# Altium footprint library AG.Old.PcbLib: 35 footprints (part 1 of 3)
Each footprint in its own frame and in the unit in brackets; x right, y up, seen from the top. Pads: shape width x height; smd on the part's side, far side on the other; paste and mask are expansions set on the pad; w line width, h text height; cw(c..) or ccw(c..) is an arc to the next point about the centre after c.
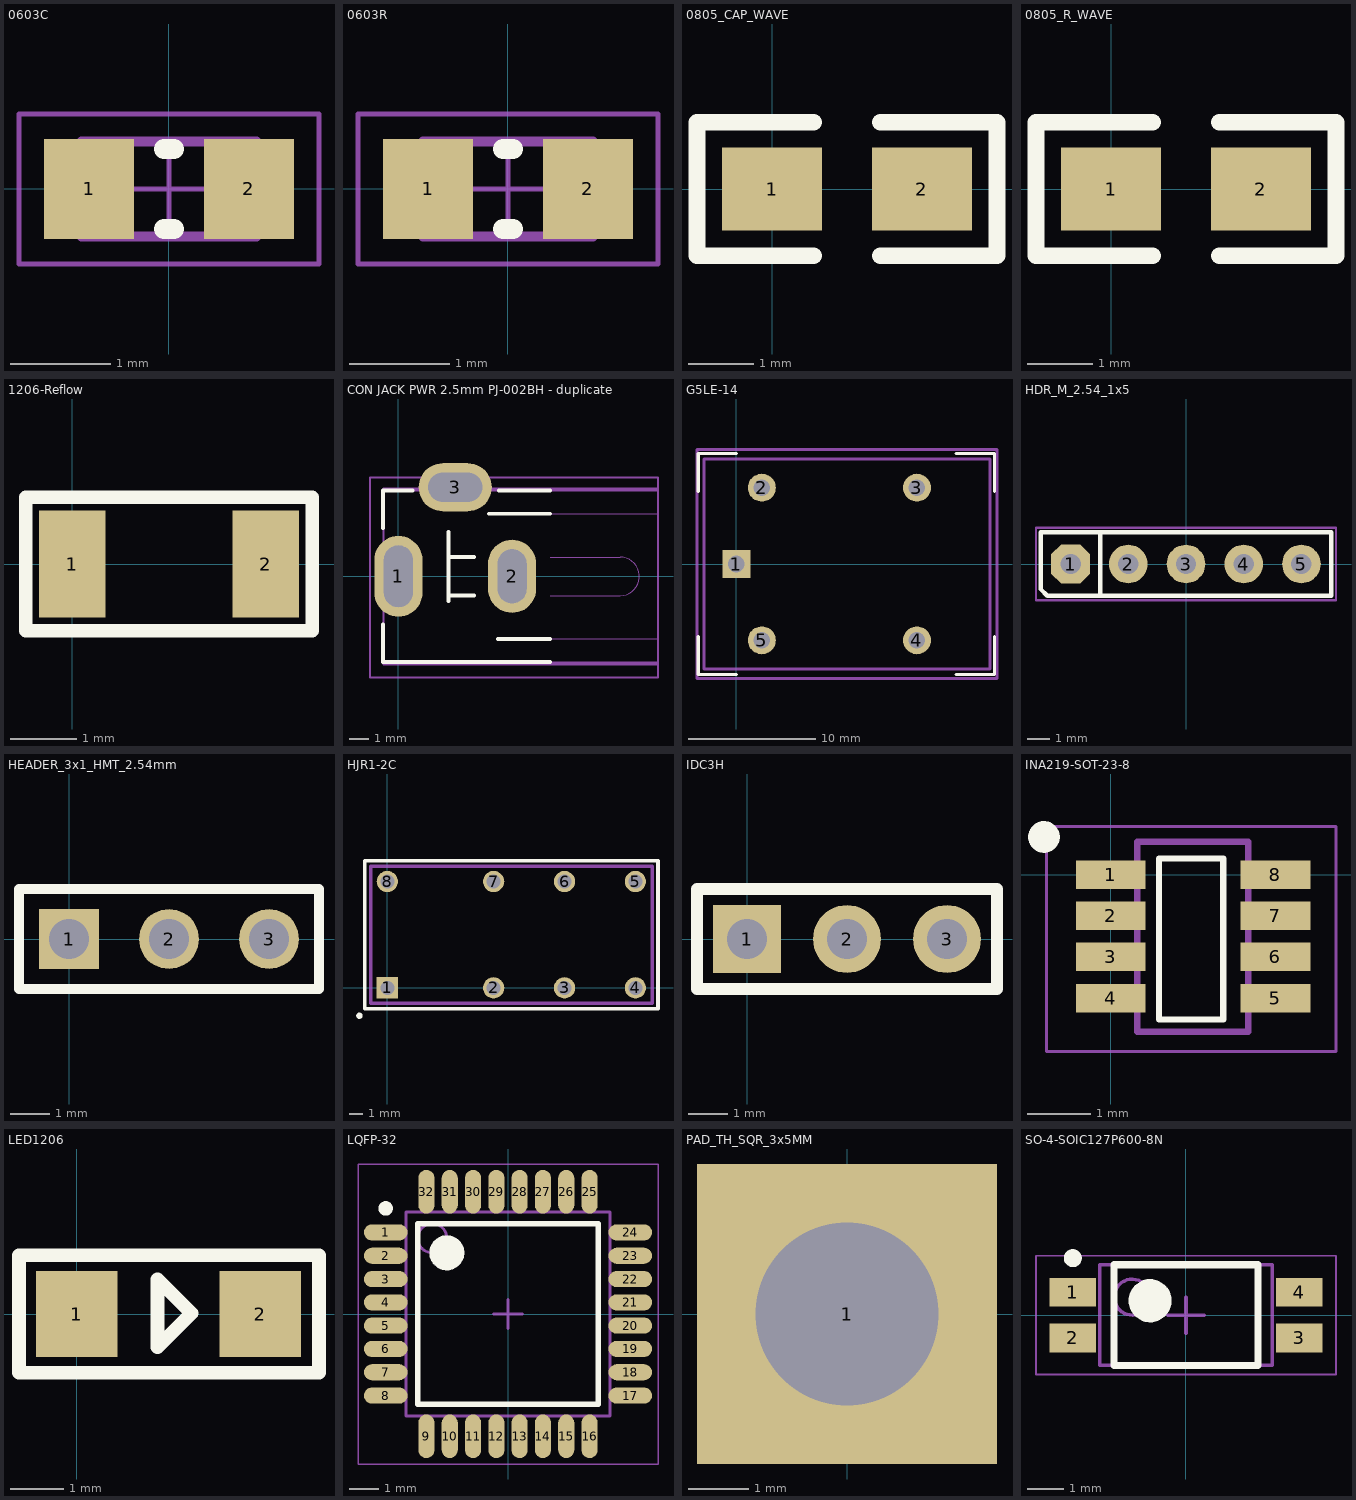
[diagram p0: the footprints below, top view; thin cyan lines are the x and y axes]

## 0603C [mm]
height 1
pads (2):
  rect 0.9x1 smd: 1(-0.8,0) 2(0.8,0)
Top Overlay:
  lines w0.2: -0.05,-0.4 0.05,-0.4 ; -0.05,0.4 0.05,0.4
Mechanical 13:
  lines w0.1: -0.875,-0.475 0.875,-0.475 0.875,0.475 -0.875,0.475 -0.875,-0.475
Mechanical 15:
  lines w0.05: -0.475,0 0.475,0 ; 0,-0.475 0,0.475 ; -1.5,-0.75 1.5,-0.75 1.5,0.75 -1.5,0.75 -1.5,-0.75
3D body: height 1, standoff 0, extent 0.525,-0.475 0.875,0.475
3D body: height 1, standoff 0, extent -0.875,-0.475 -0.525,0.475
3D body: height 1, standoff 0, extent -0.525,-0.475 0.525,0.475

## 0603R [mm]
height 0.6
pads (2):
  rect 0.9x1 smd: 1(-0.8,0) 2(0.8,0)
Top Overlay:
  lines w0.2: -0.05,-0.4 0.05,-0.4 ; -0.05,0.4 0.05,0.4
Mechanical 13:
  lines w0.1: -0.85,-0.475 -0.85,0.475 0.85,0.475 0.85,-0.475 -0.85,-0.475
Mechanical 15:
  lines w0.05: -0.475,0 0.475,0 ; 0,-0.475 0,0.475 ; -1.5,-0.75 -1.5,0.75 1.5,0.75 1.5,-0.75 -1.5,-0.75
3D body: height 0.6, standoff 0, extent 0.581,-0.474 0.85,0.475
3D body: height 0.6, standoff 0, extent -0.58,-0.474 0.581,0.475
3D body: height 0.6, standoff 0, extent -0.849,-0.474 -0.58,0.475

## 0805_CAP_WAVE [mil] "Capacitor 0805 (Wave)"
height 100.79
pads (2):
  rect 60x50 smd: 1(0,0) 2(90,0)
Top Overlay:
  lines w10: 25,-40 -45,-40 -45,40 25,40 ; 65,-40 135,-40 135,40 65,40
3D body "0805_Capacitor.step": height 35.43, standoff 0, extent 5.64,-24.6 84.38,24.61

## 0805_R_WAVE [mil] "Resistor SMD0805 (Wave)"
height 100.79
pads (2):
  rect 60x50 smd: 1(0,0) 2(90,0)
Top Overlay:
  lines w10: 25,-40 -45,-40 -45,40 25,40 ; 65,-40 135,-40 135,40 65,40
3D body "0805_Resistor.STEP": height 29.92, standoff 0, extent -0.27,-26.57 90.28,26.58

## 1206-Reflow [mm]
pads (2):
  rect 1x1.6 smd: 1(0,0) 2(2.9,0)
Top Overlay:
  lines w0.2: -0.7,-1 3.6,-1 3.6,1 -0.7,1 -0.7,-1
3D body "SW3dPS-1206_SMD_Cap.step": height 1, standoff 0, extent -0.2,-0.8 3,0.8

## CON JACK PWR 2.5mm PJ-002BH - duplicate [mil] "Connector, Power Jack, 2.5 mm x 5.1 mm, 24 V, 5 A, Right Angle, TH"
height 433.07
pads (3):
  oval 100x167.95 hole 60 slot 127.95 at 90 deg: 1(0,0)
  oval 100x152.2 hole 60 slot 112.2 at 90 deg: 2(236,0)
  oval 152.2x100 hole 60 slot 112.2 at 0 deg: 3(118,185)
Top Overlay:
  lines w8: -32,-100 -32,-178 314.96,-178 ; -32,100 -32,178 29,178 ; 104,-51.18 104,92 ; 104,-40 157,-40 ; 104,40 157,40 ; 188,130 314.96,130 ; 206.69,-130 314.96,-130 ; 209,178 314.96,178
Mechanical 11:
  lines w3.94: -31,-179 539,-179 539,178 -31,178 -31,-179
Mechanical 13:
  lines w1: 314.96,-178 539,-178 539,178 314.96,178 ; 314.96,-130 539,-130 ; 314.96,-40 460.11,-40 ccw(c460.11,0) 460.11,40 314.96,40 ; 314.96,130 539,130
  lines w3.94: -31.35,-183 539,-183 539,182 -31.35,182 -31.35,-183
Mechanical 15:
  lines w3.94: -15,0 15,0 ; 0,-15 0,15 ; -59,-210 -59,205 539,205 539,-210 -59,-210
3D body "PJ-002AH.STEP": height 435.04, standoff -135.83, extent -29.46,-177.08 537.46,193

## G5LE-14 [mm] "RELAY GEN PURPOSE SPDT"
height 22.5
pads (5):
  rect 2.2x2.2 hole 1.3: 1(0,0)
  round 2.2 hole 1.3: 2(2,6) 3(14.2,6) 4(14.2,-6) 5(2,-6)
Top Overlay:
  lines w0.254: -3,-5.7 -3,-8.7 0,-8.7 ; -3,5.7 -3,8.7 0,8.7 ; 17.3,-8.7 20.3,-8.7 20.3,-5.7 ; 17.3,8.7 20.3,8.7 20.3,5.7
Mechanical 13:
  lines w0.254: -2.55,-8.25 19.95,-8.25 19.95,8.25 -2.55,8.25 -2.55,-8.25
Mechanical 15:
  lines w0.254: -3.1,-9 -3.1,9 20.5,9 20.5,-9 -3.1,-9

## HDR_M_2.54_1x5 [mm] "Header Male Vertical 5 Way 2.54mm Pitch"
height 0.6
pads (5):
  oct 1.7x1.7 hole 0.9: 1(-5.08,0)
  round 1.7 hole 0.9: 2(-2.54,0) 3(0,0) 4(2.54,0) 5(5.08,0)
Top Overlay:
  lines w0.2: -3.78,-1.4 -3.78,1.4 ; -6.4,-1.1 -6.1,-1.4 6.4,-1.4 6.4,1.4 -6.4,1.4 -6.4,-1.1
Mechanical 11:
  lines w0.1: -3.78,-1.4 -3.78,1.4 ; -6.4,-1.1 -6.4,1.4 6.4,1.4 6.4,-1.4 -6.1,-1.4 -6.4,-1.1
Mechanical 15:
  lines w0.1: -0.5,0 0.5,0 ; 0,-0.5 0,0.5 ; -6.6,-1.6 -6.6,1.6 6.6,1.6 6.6,-1.6 -6.6,-1.6
3D body "Samtec-TSW-105-07-G-S.step": height 8.4, standoff -2.52, extent -6.333,-1.267 6.367,1.273

## HEADER_3x1_HMT_2.54mm [mil] "Generic Pin Header 3x1 (HMT)"
height 354.33
pads (3):
  rect 60x60 hole 40: 1(0,0)
  round 60 hole 40: 2(100,0) 3(200,0)
Top Overlay:
  lines w10: -50,-50 -50,50 250,50 250,-50 -50,-50

## HJR1-2C [mil]
height 480.31
pads (8):
  rect 60x60 hole 39.37: 1(0,0)
  round 60 hole 39.37: 2(300,0) 3(500,0) 4(700,0) 5(700,300) 6(500,300) 7(300,300) 8(0,300)
Top Overlay:
  circle w10: c-78.74,-78.74 r3.94
  lines w10: -62.99,-59.06 763.78,-59.06 763.78,358.27 -62.99,358.27 -62.99,-59.06
Mechanical 13:
  lines w10: -47.24,-42.91 747.24,-42.91 747.24,342.91 -47.24,342.91 -47.24,-42.91

## IDC3H [mil]
pads (3):
  rect 68x68 hole 40: 1(0,0)
  round 68 hole 40: 2(100,0) 3(200,0)
Top Overlay:
  lines w12: 30,-50 -50,-50 ; -50,-50 250,-50 250,50 -50,50 -50,-50
3D body "PLS3.step": height 334.65, standoff -137.8, extent -50,-50 250,50

## INA219-SOT-23-8 [mm] "Pitch 0.65mm"
height 1.45
pads (8):
  rect 1.1x0.45 smd: 1(0,0) 2(0,-0.65) 3(0,-1.3) 4(0,-1.95) 5(2.6,-1.95) 6(2.6,-1.3) 7(2.6,-0.65) 8(2.6,0)
Top Overlay:
  circle w0.25: c-1.055,0.595 r0.125
  lines w0.1: 0.762,-2.286 1.778,-2.286 1.778,0.254 0.762,0.254 0.762,-2.286
Mechanical 13:
  lines w0.1: 0.42,-2.48 2.17,-2.48 2.17,0.52 0.42,0.52 0.42,-2.48
Mechanical 15:
  lines w0.05: -1.016,-2.794 -1.016,0.762 3.556,0.762 3.556,-2.794 -1.016,-2.794

## LED1206 [mm] "LED Chip 1206 (3.2mm x 1.5mm)"
height 1
pads (2):
  rect 1.52x1.6 smd: 1(0,0) 2(3.425,0)
Top Overlay:
  lines w0.254: -1.075,-1.1 -1.075,1.1 4.525,1.1 4.525,-1.1 -1.075,-1.1 ; 1.511,-0.622 1.511,0.648 2.146,0.013 1.511,-0.622

## LQFP-32 [mm]
height 1.2
pads (32):
  oval 1.5x0.55 smd: 1(-4.2,2.8) 2(-4.2,2) 3(-4.2,1.2) 4(-4.2,0.4) 5(-4.2,-0.4) 6(-4.2,-1.2) 7(-4.2,-2) 8(-4.2,-2.8) 17(4.2,-2.8) 18(4.2,-2) 19(4.2,-1.2) 20(4.2,-0.4) 21(4.2,0.4) 22(4.2,1.2) 23(4.2,2) 24(4.2,2.8)
  oval 0.55x1.5 smd: 9(-2.8,-4.2) 10(-2,-4.2) 11(-1.2,-4.2) 12(-0.4,-4.2) 13(0.4,-4.2) 14(1.2,-4.2) 15(2,-4.2) 16(2.8,-4.2) 25(2.8,4.2) 26(2,4.2) 27(1.2,4.2) 28(0.4,4.2) 29(-0.4,4.2) 30(-1.2,4.2) 31(-2,4.2) 32(-2.8,4.2)
Top Overlay:
  circle w0.25: c-4.2,3.625 r0.125
  circle w0.6: c-2.1,2.1 r0.3
  lines w0.2: -3.1,-3.1 -3.1,3.1 3.1,3.1 3.1,-3.1 -3.1,-3.1
Mechanical 13:
  circle w0.1: c-2.6,2.6 r0.5
  lines w0.1: -3.5,-3.5 -3.5,3.5 3.5,3.5 3.5,-3.5 -3.5,-3.5
Mechanical 15:
  lines w0.05: -5.15,-5.15 -5.15,5.15 5.15,5.15 5.15,-5.15 -5.15,-5.15
  lines w0.1: -0.5,0 0.5,0 ; 0,-0.5 0,0.5
3D body "TQFP80P900X900X120-32N.step": height 1.2, standoff 0, extent -4.5,-4.5 4.5,4.5

## PAD_TH_SQR_3x5MM [mm] "Pad Through Hole 3MM IN 5MM OUT Square"
pads (1):
  rect 5x5 hole 3.05: 1(0,0)

## SO-4-SOIC127P600-8N [mm] "SO-4 Footprint for TLP290"
height 2.2
pads (4):
  rect 1.3x0.8 smd: 1(-3.15,0.635) 2(-3.15,-0.635) 3(3.15,-0.635) 4(3.15,0.635)
Top Overlay:
  circle w0.6: c-1,0.4 r0.3
  circle w0.25: c-3.15,1.585 r0.125
  lines w0.2: -2,-1.4 2,-1.4 2,1.4 -2,1.4 -2,-1.4
Mechanical 13:
  circle w0.1: c-1.5,0.5 r0.5
  lines w0.1: -2.4,-1.4 2.4,-1.4 2.4,1.4 -2.4,1.4 -2.4,-1.4
Mechanical 15:
  lines w0.05: -4.175,-1.65 4.175,-1.65 4.175,1.65 -4.175,1.65 -4.175,-1.65
  lines w0.1: -0.5,0 0.5,0 ; 0,-0.5 0,0.5
3D body "SO-4-SOIC127P600-8N.step": height 2.2, standoff 0, extent -3.5,-1.4 3.5,1.4